# EAGLE library part 5-146130-2 (library Common-Parts-Library-Eagle)
AMPMODU 6 Position Surface Mount Dual Row 0.1 Inch Straight Breakaway Header
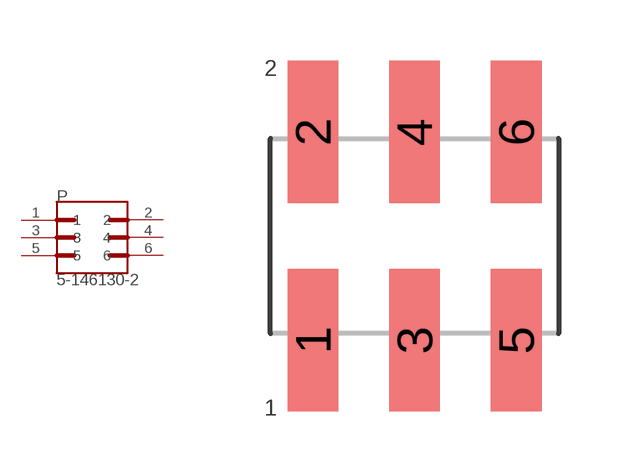
[diagram p15: symbol with the pads of TE_5-146130-2; footprint TE_5-146130-2]

Designator prefix P

## 5-146130-2 (MANUFACTURER: TE Connectivity)  [TE_5-146130-2]
1  1  pas
2  2  pas
3  3  pas
4  4  pas
5  5  pas
6  6  pas

## Footprint TE_5-146130-2 (pad centres in mm)
smd 1.27 x 3.56: 1 -2.54,-2.605; 2 -2.54,2.605; 3 0,-2.605; 4 0,2.605; 5 2.54,-2.605; 6 2.54,2.605